# Altium integrated library Xilinx Virtex.IntLib: 240 symbols (part 36 of 36)
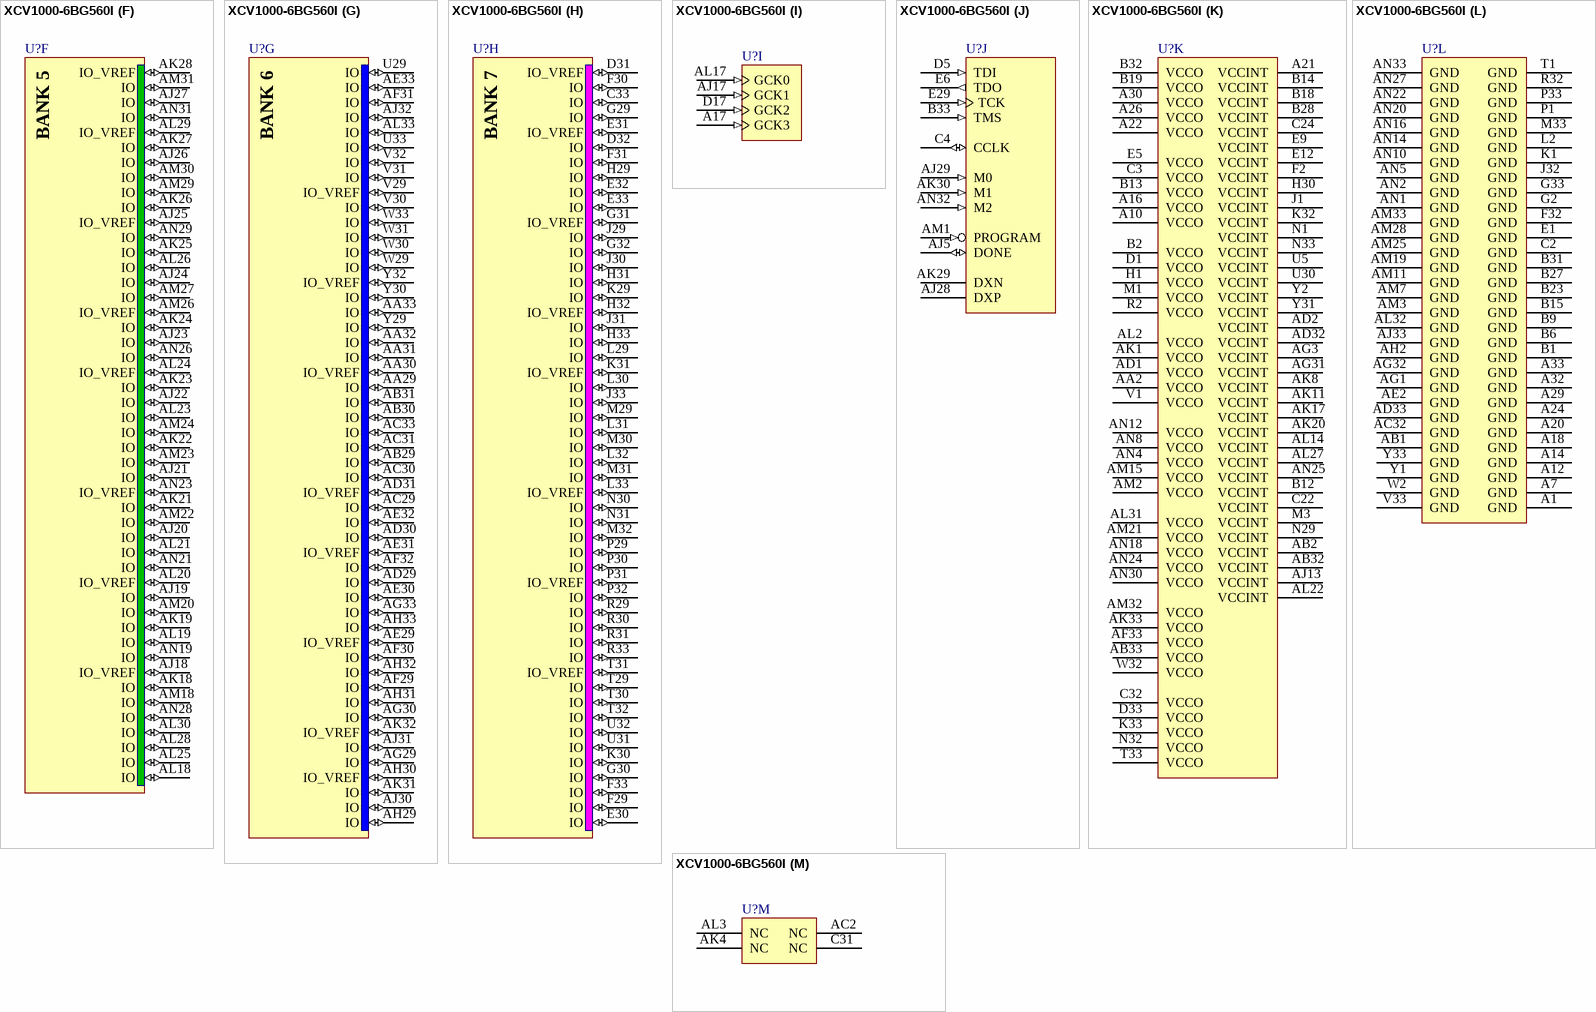
[diagram p256: symbol XCV1000-6BG560I]

## XCV1000-6BG560I
designator U?
Virtex 2.5V FPGA, 404 User I/Os, 560-Ball BGA, Speed Grade 6, Industrial Grade; Note: Solder pads are defined by the copper i.e. non-soldermask defined (NSMD); Published: 19-Sep-2001; LatestRevisionDate: 13-Apr-2006; LatestRevisionNote: IPC-7351 Footprint Added.; DatasheetVersion: Dec-2002; PackageVersion: ver1.1, Apr-2001; PackageReference: BG560; Publisher: Altium Limited; PackageDescription: 560-Ball Metal Ball Grid Array (BG560); Code_JEDEC: MO-192-BAV-1 (Depopulated); ComponentLink1Description: Virtex Datasheet; ComponentLink1URL: http://www.xilinx.com/support/documentation/data_sheets/ds003.pdf; ComponentLink2Description: BG560 Package Drawing; ComponentLink2URL: http://www.xilinx.com/support/documentation/package_specs/bg560.pdf; ComponentLink3Description: Virtex Documents; ComponentLink3URL: http://www.xilinx.com/support/documentation/virtex.htm; ComponentLink4Description: Xilinx.com Home; ComponentLink4URL: http://www.xilinx.com
footprint BG560 (BGA, 560-Leads, Body 42.5x42.5mm, Pitch 1.27mm)
signal-integrity model XCV1000_BG560 (Virtex)
part A pins: A19 IO_VREF (io), A23 IO (io), A25 IO (io), A27 IO (io), A28 IO (io), A31 IO (io), B20 IO (io), B21 IO (io), B22 IO (io), B24 IO (io), B25 IO (io), B26 IO (io), B29 IO (io), B30 IO (io), C18 IO (io), C19 IO (io), C20 IO (io), C21 IO (io), C23 IO (io), C25 IO (io), C26 IO (io), C27 IO (io), C28 IO (io), C29 IO (io), C30 IO (io), D18 IO (io), D19 IO (io), D20 IO_VREF (io), D21 IO (io), D22 IO (io), D23 IO (io), D24 IO (io), D25 IO (io), D26 IO_VREF (io), D27 IO (io), D28 IO (io), D29 IO_VREF (io), D30 IO (io), E18 IO (io), E19 IO (io), E20 IO (io), E21 IO_VREF (io), E22 IO (io), E23 IO_VREF (io), E24 IO_VREF (io), E25 IO (io), E26 IO (io), E27 IO_VREF (io), E28 IO (io)
part B pins: A2 IO_CS (io), A3 IO (io), A4 IO (io), A5 IO (io), A6 IO_VREF (io), A8 IO (io), A9 IO (io), A11 IO (io), A13 IO (io), A15 IO (io), B4 IO (io), B5 IO (io), B7 IO (io), B8 IO (io), B10 IO (io), B11 IO (io), B16 IO (io), B17 IO (io), C5 IO (io), C6 IO (io), C7 IO (io), C8 IO (io), C9 IO (io), C10 IO (io), C11 IO (io), C12 IO (io), C13 IO (io), C14 IO (io), C15 IO (io), C16 IO (io), C17 IO (io), D6 IO_WRITE (io), D7 IO_VREF (io), D8 IO (io), D9 IO (io), D10 IO_VREF (io), D11 IO_VREF (io), D12 IO (io), D13 IO_VREF (io), D14 IO (io), D15 IO (io), D16 IO_VREF (io), E7 IO_VREF (io), E8 IO (io), E10 IO (io), E11 IO (io), E13 IO (io), E14 IO (io), E15 IO_VREF (io), E16 IO (io), E17 IO (io)
part C pins: B3 IO_VREF (io), C1 IO (io), D2 IO (io), D3 IO (io), D4 IO_DOUT_BUSY (io), E2 IO (io), E3 IO (io), E4 IO_DIN_D0 (io), F1 IO (io), F3 IO (io), F4 IO (io), F5 IO (io), G1 IO (io), G3 IO (io), G4 IO (io), G5 IO_VREF (io), H2 IO (io), H3 IO (io), H4 IO_VREF (io), H5 IO (io), J2 IO (io), J3 IO (io), J4 IO (io), J5 IO (io), K2 IO (io), K3 IO_D1 (io), K4 IO (io), K5 IO_VREF (io), L1 IO (io), L3 IO (io), L4 IO_D2 (io), L5 IO_VREF (io), M2 IO (io), M4 IO (io), M5 IO (io), N2 IO (io), N3 IO (io), N4 IO (io), N5 IO_VREF (io), P2 IO (io), P3 IO_D3 (io), P4 IO_VREF (io), P5 IO (io), R1 IO_VREF (io), R3 IO (io), R4 IO (io), R5 IO (io), T2 IO (io), T3 IO (io), T4 IO (io), T5 IO (io), U3 IO (io)
part D pins: AA1 IO (io), AA3 IO (io), AA4 IO_VREF (io), AA5 IO (io), AB3 IO (io), AB4 IO (io), AB5 IO_D5 (io), AC1 IO (io), AC3 IO (io), AC4 IO_D6 (io), AC5 IO (io), AD3 IO_VREF (io), AD4 IO (io), AD5 IO (io), AE1 IO (io), AE3 IO (io), AE4 IO (io), AE5 IO_VREF (io), AF1 IO_VREF (io), AF2 IO (io), AF3 IO (io), AF4 IO (io), AF5 IO (io), AG2 IO (io), AG4 IO (io), AG5 IO (io), AH1 IO (io), AH3 IO (io), AH4 IO_VREF (io), AH5 IO_INIT (io), AJ1 IO (io), AJ2 IO (io), AJ3 IO (io), AJ4 IO_D7 (io), AK2 IO_VREF (io), AK3 IO (io), AL1 IO (io), U1 IO (io), U2 IO (io), U4 IO (io), V2 IO (io), V3 IO (io), V4 IO_VREF (io), V5 IO (io), W1 IO (io), W3 IO (io), W4 IO_D4 (io), W5 IO_VREF (io), Y3 IO (io), Y4 IO (io), Y5 IO (io)
part E pins: AJ6 IO (io), AJ7 IO (io), AJ8 IO (io), AJ9 IO (io), AJ10 IO (io), AJ11 IO (io), AJ12 IO (io), AJ14 IO (io), AJ15 IO (io), AJ16 IO (io), AK5 IO (io), AK6 IO (io), AK7 IO (io), AK9 IO (io), AK10 IO (io), AK12 IO (io), AK13 IO_VREF (io), AK14 IO (io), AK15 IO (io), AK16 IO (io), AL4 IO (io), AL5 IO (io), AL6 IO (io), AL7 IO_VREF (io), AL8 IO (io), AL9 IO_VREF (io), AL10 IO_VREF (io), AL11 IO (io), AL12 IO (io), AL13 IO (io), AL15 IO (io), AL16 IO_VREF (io), AM4 IO_VREF (io), AM5 IO (io), AM6 IO (io), AM8 IO (io), AM9 IO (io), AM10 IO (io), AM12 IO (io), AM13 IO (io), AM14 IO_VREF (io), AM16 IO (io), AM17 IO (io), AN3 IO_VREF (io), AN6 IO (io), AN7 IO (io), AN9 IO (io), AN11 IO (io), AN13 IO (io), AN15 IO (io), AN17 IO (io)
part F pins: AJ18 IO_VREF (io), AJ19 IO (io), AJ20 IO (io), AJ21 IO (io), AJ22 IO (io), AJ23 IO (io), AJ24 IO (io), AJ25 IO_VREF (io), AJ26 IO (io), AJ27 IO (io), AK18 IO (io), AK19 IO (io), AK21 IO (io), AK22 IO (io), AK23 IO (io), AK24 IO (io), AK25 IO (io), AK26 IO (io), AK27 IO (io), AK28 IO_VREF (io), AL18 IO (io), AL19 IO (io), AL20 IO_VREF (io), AL21 IO (io), AL23 IO (io), AL24 IO_VREF (io), AL25 IO (io), AL26 IO (io), AL28 IO (io), AL29 IO_VREF (io), AL30 IO (io), AM18 IO (io), AM20 IO (io), AM22 IO (io), AM23 IO (io), AM24 IO (io), AM26 IO_VREF (io), AM27 IO (io), AM29 IO (io), AM30 IO (io), AM31 IO (io), AN19 IO (io), AN21 IO (io), AN23 IO_VREF (io), AN26 IO (io), AN28 IO (io), AN29 IO (io), AN31 IO (io)
part G pins: AA29 IO (io), AA30 IO_VREF (io), AA31 IO (io), AA32 IO (io), AA33 IO (io), AB29 IO (io), AB30 IO (io), AB31 IO (io), AC29 IO (io), AC30 IO (io), AC31 IO (io), AC33 IO (io), AD29 IO (io), AD30 IO (io), AD31 IO_VREF (io), AE29 IO_VREF (io), AE30 IO (io), AE31 IO_VREF (io), AE32 IO (io), AE33 IO (io), AF29 IO (io), AF30 IO (io), AF31 IO (io), AF32 IO (io), AG29 IO (io), AG30 IO (io), AG33 IO (io), AH29 IO (io), AH30 IO_VREF (io), AH31 IO (io), AH32 IO (io), AH33 IO (io), AJ30 IO (io), AJ31 IO (io), AJ32 IO (io), AK31 IO (io), AK32 IO_VREF (io), AL33 IO (io), U29 IO (io), U33 IO (io), V29 IO_VREF (io), V30 IO (io), V31 IO (io), V32 IO (io), W29 IO (io), W30 IO (io), W31 IO (io), W33 IO (io), Y29 IO (io), Y30 IO (io), Y32 IO_VREF (io)
part H pins: C33 IO (io), D31 IO_VREF (io), D32 IO (io), E30 IO (io), E31 IO_VREF (io), E32 IO (io), E33 IO (io), F29 IO (io), F30 IO (io), F31 IO (io), F33 IO (io), G29 IO (io), G30 IO (io), G31 IO_VREF (io), G32 IO (io), H29 IO (io), H31 IO (io), H32 IO_VREF (io), H33 IO (io), J29 IO (io), J30 IO (io), J31 IO (io), J33 IO (io), K29 IO (io), K30 IO (io), K31 IO_VREF (io), L29 IO (io), L30 IO (io), L31 IO (io), L32 IO (io), L33 IO_VREF (io), M29 IO (io), M30 IO (io), M31 IO (io), M32 IO (io), N30 IO (io), N31 IO (io), P29 IO (io), P30 IO (io), P31 IO_VREF (io), P32 IO (io), R29 IO (io), R30 IO (io), R31 IO (io), R33 IO (io), T29 IO (io), T30 IO (io), T31 IO_VREF (io), T32 IO (io), U31 IO (io), U32 IO (io)
part I pins: A17 GCK3 (in), AJ17 GCK1 (in), AL17 GCK0 (in), D17 GCK2 (in)
part J pins: AJ5 DONE (io), AJ28 DXP, AJ29 M0 (in), AK29 DXN, AK30 M1 (in), AM1 PROGRAM (in), AN32 M2 (in), B33 TMS (in), C4 CCLK (io), D5 TDI (in), E6 TDO (out), E29 TCK (in)
part K pins: A10 VCCO (power), A16 VCCO (power), A21 VCCINT (power), A22 VCCO (power), A26 VCCO (power), A30 VCCO (power), AA2 VCCO (power), AB2 VCCINT (power), AB32 VCCINT (power), AB33 VCCO (power), AD1 VCCO (power), AD2 VCCINT (power), AD32 VCCINT (power), AF33 VCCO (power), AG3 VCCINT (power), AG31 VCCINT (power), AJ13 VCCINT (power), AK1 VCCO (power), AK8 VCCINT (power), AK11 VCCINT (power), AK17 VCCINT (power), AK20 VCCINT (power), AK33 VCCO (power), AL2 VCCO (power), AL14 VCCINT (power), AL22 VCCINT (power), AL27 VCCINT (power), AL31 VCCO (power), AM2 VCCO (power), AM15 VCCO (power), AM21 VCCO (power), AM32 VCCO (power), AN4 VCCO (power), AN8 VCCO (power), AN12 VCCO (power), AN18 VCCO (power), AN24 VCCO (power), AN25 VCCINT (power), AN30 VCCO (power), B2 VCCO (power), B12 VCCINT (power), B13 VCCO (power), B14 VCCINT (power), B18 VCCINT (power), B19 VCCO (power), B28 VCCINT (power), B32 VCCO (power), C3 VCCO (power), C22 VCCINT (power), C24 VCCINT (power), C32 VCCO (power), D1 VCCO (power), D33 VCCO (power), E5 VCCO (power), E9 VCCINT (power), E12 VCCINT (power), F2 VCCINT (power), H1 VCCO (power), H30 VCCINT (power), J1 VCCINT (power), K32 VCCINT (power), K33 VCCO (power), M1 VCCO (power), M3 VCCINT (power), N1 VCCINT (power), N29 VCCINT (power), N32 VCCO (power), N33 VCCINT (power), R2 VCCO (power), T33 VCCO (power), U5 VCCINT (power), U30 VCCINT (power), V1 VCCO (power), W32 VCCO (power), Y2 VCCINT (power), Y31 VCCINT (power)
part L pins: A1 GND (power), A7 GND (power), A12 GND (power), A14 GND (power), A18 GND (power), A20 GND (power), A24 GND (power), A29 GND (power), A32 GND (power), A33 GND (power), AB1 GND (power), AC32 GND (power), AD33 GND (power), AE2 GND (power), AG1 GND (power), AG32 GND (power), AH2 GND (power), AJ33 GND (power), AL32 GND (power), AM3 GND (power), AM7 GND (power), AM11 GND (power), AM19 GND (power), AM25 GND (power), AM28 GND (power), AM33 GND (power), AN1 GND (power), AN2 GND (power), AN5 GND (power), AN10 GND (power), AN14 GND (power), AN16 GND (power), AN20 GND (power), AN22 GND (power), AN27 GND (power), AN33 GND (power), B1 GND (power), B6 GND (power), B9 GND (power), B15 GND (power), B23 GND (power), B27 GND (power), B31 GND (power), C2 GND (power), E1 GND (power), F32 GND (power), G2 GND (power), G33 GND (power), J32 GND (power), K1 GND (power), L2 GND (power), M33 GND (power), P1 GND (power), P33 GND (power), R32 GND (power), T1 GND (power), V33 GND (power), W2 GND (power), Y1 GND (power), Y33 GND (power)
part M pins: AC2 NC, AK4 NC, AL3 NC, C31 NC
part A text: BANK 0
part B text: BANK 1
part C text: BANK 2
part D text: BANK 3
part E text: BANK 4
part F text: BANK 5
part G text: BANK 6
part H text: BANK 7

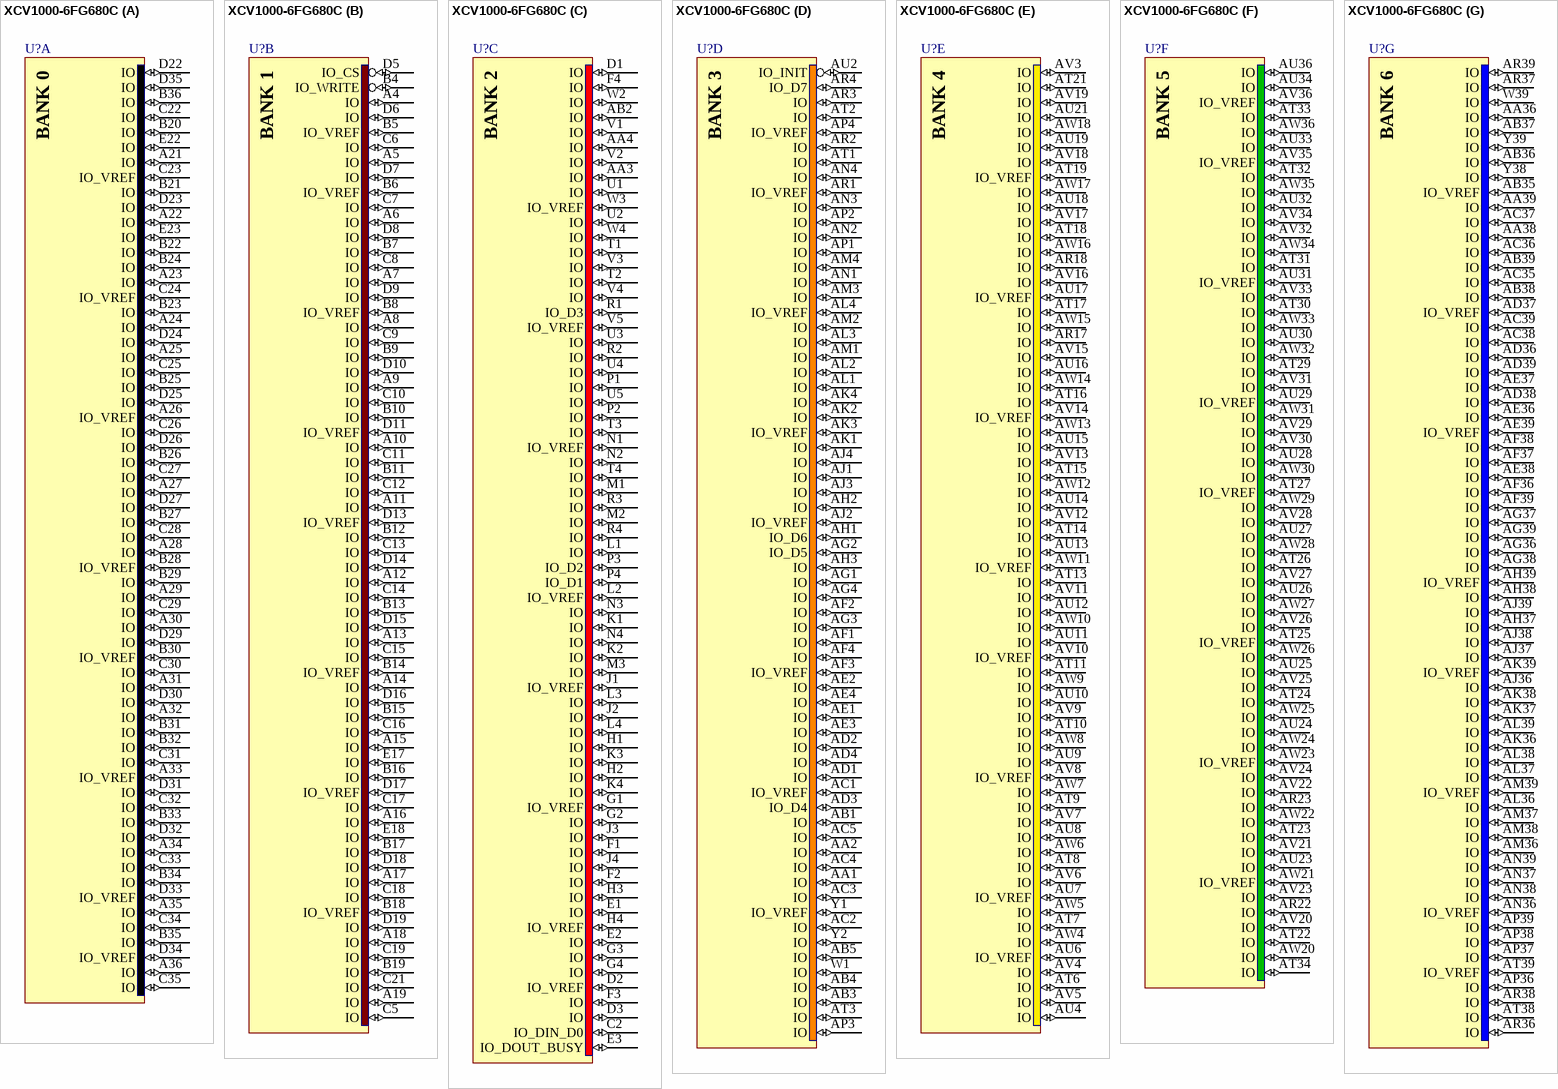
[diagram p218: symbol XCV1000-6FG680C]

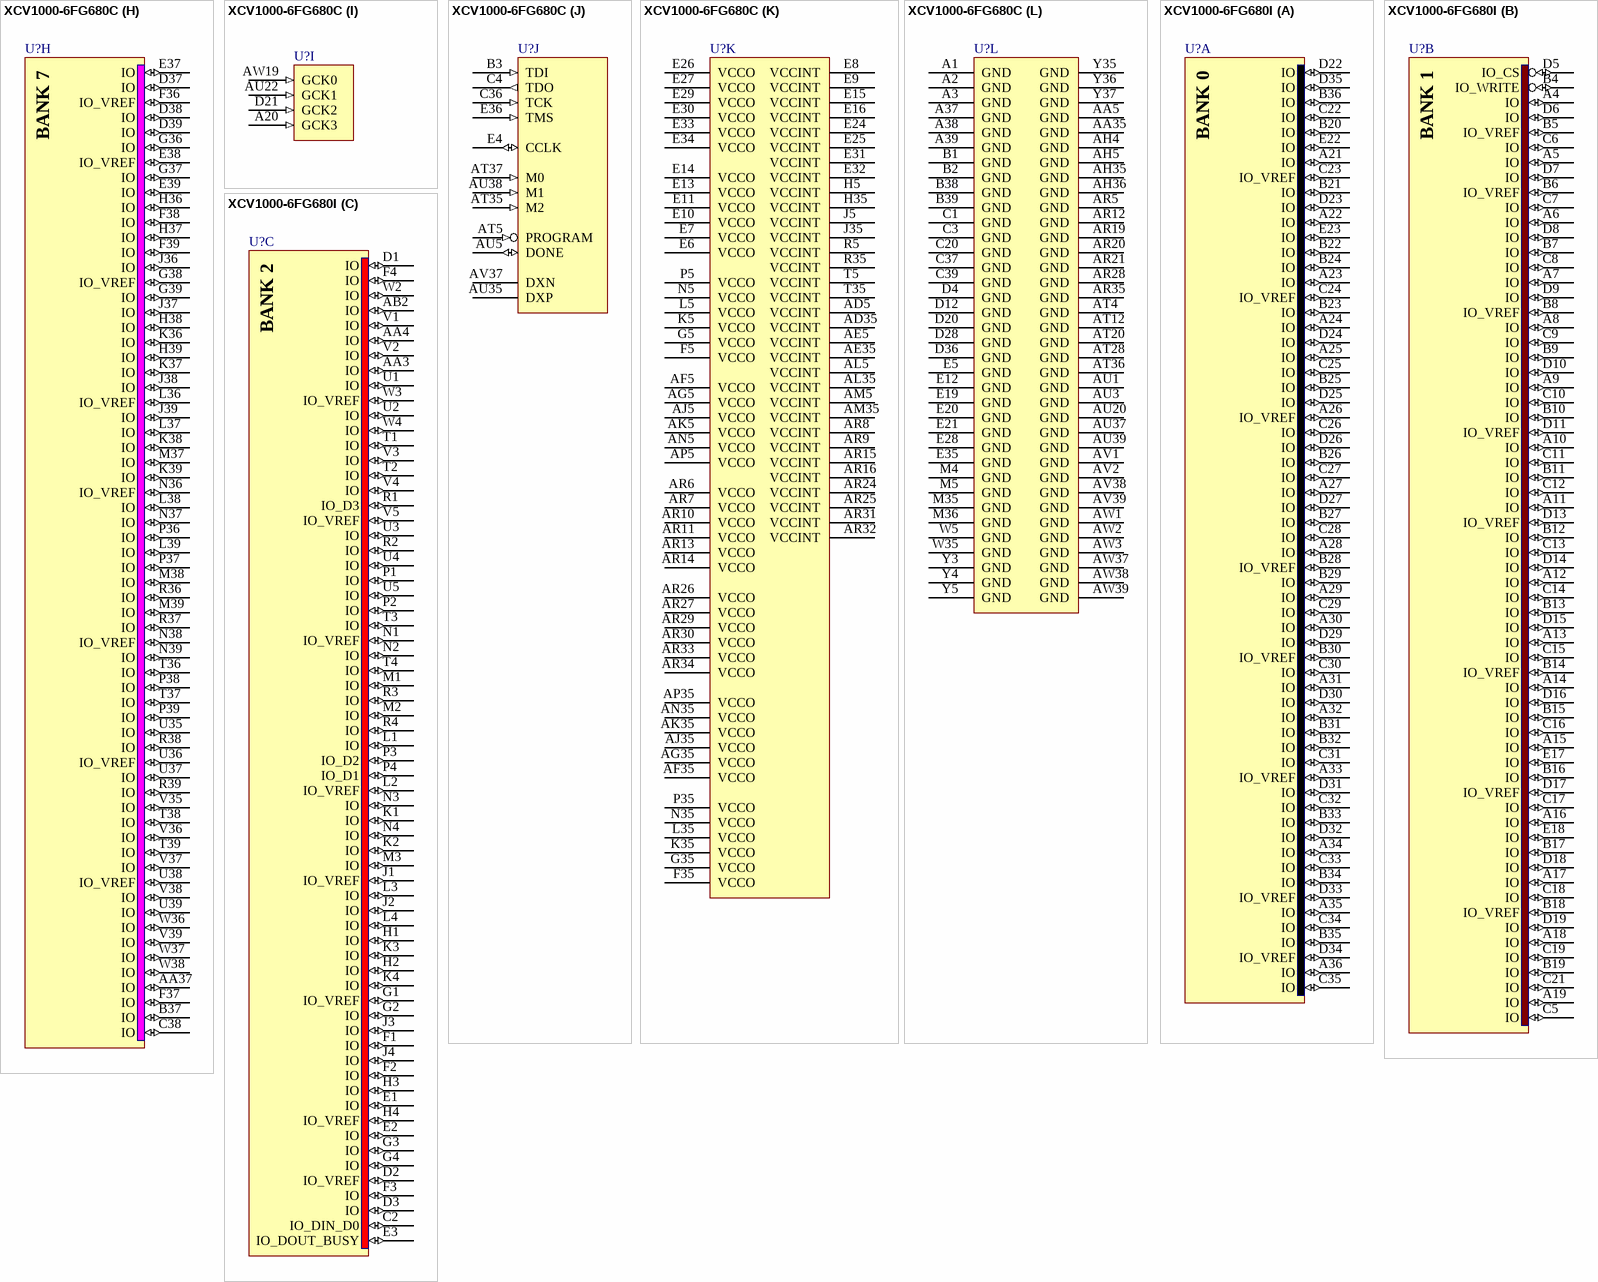
[diagram p219: symbols XCV1000-6FG680C to XCV1000-6FG680I]

## XCV1000-6FG680C
designator U?
Virtex 2.5V FPGA, 512 User I/Os, 680-Ball FBGA, Speed Grade 6, Commercial Grade; Note: Solder pads are defined by the copper i.e. non-soldermask defined (NSMD); Published: 19-Sep-2001; LatestRevisionDate: 13-Apr-2006; LatestRevisionNote: IPC-7351 Footprint Added.; DatasheetVersion: Dec-2002; PackageVersion: ver1.2.1, Apr-2005; PackageReference: FG680; Publisher: Altium Limited; PackageDescription: 680-Ball Fine Pitch Ball Grid Array (FG680); Supplier 1: Digi-Key; Supplier Part Number 1: XCV1000-6FG680C-ND; Code_JEDEC: MO-192-AAU-1 (Depopulated); ComponentLink1Description: Virtex Datasheet; ComponentLink1URL: http://www.xilinx.com/support/documentation/data_sheets/ds003.pdf; ComponentLink2Description: FG680 Package Drawing; ComponentLink2URL: http://www.xilinx.com/support/documentation/package_specs/fg680.pdf; ComponentLink3Description: Virtex Documents; ComponentLink3URL: http://www.xilinx.com/support/documentation/virtex.htm; ComponentLink4Description: Xilinx.com Home; ComponentLink4URL: http://www.xilinx.com
footprint FG680 (BGA, 680-Leads, Body 40x40mm, Pitch 1mm)
signal-integrity model XCV1000_FG680 (Virtex)
part A pins: A21 IO (io), A22 IO (io), A23 IO (io), A24 IO (io), A25 IO (io), A26 IO_VREF (io), A27 IO (io), A28 IO (io), A29 IO (io), A30 IO (io), A31 IO (io), A32 IO (io), A33 IO_VREF (io), A34 IO (io), A35 IO (io), A36 IO (io), B20 IO (io), B21 IO (io), B22 IO (io), B23 IO (io), B24 IO (io), B25 IO (io), B26 IO (io), B27 IO (io), B28 IO_VREF (io), B29 IO (io), B30 IO_VREF (io), B31 IO (io), B32 IO (io), B33 IO (io), B34 IO (io), B35 IO (io), B36 IO (io), C22 IO (io), C23 IO_VREF (io), C24 IO_VREF (io), C25 IO (io), C26 IO (io), C27 IO (io), C28 IO (io), C29 IO (io), C30 IO (io), C31 IO (io), C32 IO (io), C33 IO (io), C34 IO (io), C35 IO (io), D22 IO (io), D23 IO (io), D24 IO (io), D25 IO (io), D26 IO (io), D27 IO (io), D29 IO (io), D30 IO (io), D31 IO (io), D32 IO (io), D33 IO_VREF (io), D34 IO_VREF (io), D35 IO (io), E22 IO (io), E23 IO (io)
part B pins: A4 IO (io), A5 IO (io), A6 IO (io), A7 IO (io), A8 IO (io), A9 IO (io), A10 IO (io), A11 IO (io), A12 IO (io), A13 IO (io), A14 IO (io), A15 IO (io), A16 IO (io), A17 IO (io), A18 IO (io), A19 IO (io), B4 IO_WRITE (io), B5 IO_VREF (io), B6 IO_VREF (io), B7 IO (io), B8 IO_VREF (io), B9 IO (io), B10 IO (io), B11 IO (io), B12 IO (io), B13 IO (io), B14 IO_VREF (io), B15 IO (io), B16 IO (io), B17 IO (io), B18 IO_VREF (io), B19 IO (io), C5 IO (io), C6 IO (io), C7 IO (io), C8 IO (io), C9 IO (io), C10 IO (io), C11 IO (io), C12 IO (io), C13 IO (io), C14 IO (io), C15 IO (io), C16 IO (io), C17 IO (io), C18 IO (io), C19 IO (io), C21 IO (io), D5 IO_CS (io), D6 IO (io), D7 IO (io), D8 IO (io), D9 IO (io), D10 IO (io), D11 IO_VREF (io), D13 IO_VREF (io), D14 IO (io), D15 IO (io), D16 IO (io), D17 IO_VREF (io), D18 IO (io), D19 IO (io), E17 IO (io), E18 IO (io)
part C pins: AA3 IO (io), AA4 IO (io), AB2 IO (io), C2 IO_DIN_D0 (io), D1 IO (io), D2 IO_VREF (io), D3 IO (io), E1 IO (io), E2 IO (io), E3 IO_DOUT_BUSY (io), F1 IO (io), F2 IO (io), F3 IO (io), F4 IO (io), G1 IO_VREF (io), G2 IO (io), G3 IO (io), G4 IO (io), H1 IO (io), H2 IO (io), H3 IO (io), H4 IO_VREF (io), J1 IO_VREF (io), J2 IO (io), J3 IO (io), J4 IO (io), K1 IO (io), K2 IO (io), K3 IO (io), K4 IO (io), L1 IO (io), L2 IO_VREF (io), L3 IO (io), L4 IO (io), M1 IO (io), M2 IO (io), M3 IO (io), N1 IO_VREF (io), N2 IO (io), N3 IO (io), N4 IO (io), P1 IO (io), P2 IO (io), P3 IO_D2 (io), P4 IO_D1 (io), R1 IO_D3 (io), R2 IO (io), R3 IO (io), R4 IO (io), T1 IO (io), T2 IO (io), T3 IO (io), T4 IO (io), U1 IO (io), U2 IO (io), U3 IO (io), U4 IO (io), U5 IO (io), V1 IO (io), V2 IO (io), V3 IO (io), V4 IO (io), V5 IO_VREF (io), W2 IO (io), W3 IO_VREF (io), W4 IO (io)
part D pins: AA1 IO (io), AA2 IO (io), AB1 IO (io), AB3 IO (io), AB4 IO (io), AB5 IO (io), AC1 IO_VREF (io), AC2 IO (io), AC3 IO (io), AC4 IO (io), AC5 IO (io), AD1 IO (io), AD2 IO (io), AD3 IO_D4 (io), AD4 IO (io), AE1 IO (io), AE2 IO (io), AE3 IO (io), AE4 IO (io), AF1 IO (io), AF2 IO (io), AF3 IO_VREF (io), AF4 IO (io), AG1 IO (io), AG2 IO_D5 (io), AG3 IO (io), AG4 IO (io), AH1 IO_D6 (io), AH2 IO (io), AH3 IO (io), AJ1 IO (io), AJ2 IO_VREF (io), AJ3 IO (io), AJ4 IO (io), AK1 IO (io), AK2 IO (io), AK3 IO_VREF (io), AK4 IO (io), AL1 IO (io), AL2 IO (io), AL3 IO (io), AL4 IO_VREF (io), AM1 IO (io), AM2 IO (io), AM3 IO (io), AM4 IO (io), AN1 IO (io), AN2 IO (io), AN3 IO (io), AN4 IO (io), AP1 IO (io), AP2 IO (io), AP3 IO (io), AP4 IO_VREF (io), AR1 IO_VREF (io), AR2 IO (io), AR3 IO (io), AR4 IO_D7 (io), AT1 IO (io), AT2 IO (io), AT3 IO (io), AU2 IO_INIT (io), W1 IO (io), Y1 IO_VREF (io), Y2 IO (io)
part E pins: AR17 IO (io), AR18 IO (io), AT6 IO (io), AT7 IO (io), AT8 IO (io), AT9 IO (io), AT10 IO (io), AT11 IO (io), AT13 IO (io), AT14 IO (io), AT15 IO (io), AT16 IO (io), AT17 IO (io), AT18 IO (io), AT19 IO_VREF (io), AT21 IO (io), AU4 IO (io), AU6 IO_VREF (io), AU7 IO_VREF (io), AU8 IO (io), AU9 IO (io), AU10 IO (io), AU11 IO (io), AU12 IO (io), AU13 IO (io), AU14 IO (io), AU15 IO (io), AU16 IO (io), AU17 IO_VREF (io), AU18 IO (io), AU19 IO (io), AU21 IO (io), AV3 IO (io), AV4 IO (io), AV5 IO (io), AV6 IO (io), AV7 IO (io), AV8 IO_VREF (io), AV9 IO (io), AV10 IO_VREF (io), AV11 IO (io), AV12 IO (io), AV13 IO (io), AV14 IO_VREF (io), AV15 IO (io), AV16 IO (io), AV17 IO (io), AV18 IO (io), AV19 IO (io), AW4 IO (io), AW5 IO (io), AW6 IO (io), AW7 IO (io), AW8 IO (io), AW9 IO (io), AW10 IO (io), AW11 IO_VREF (io), AW12 IO (io), AW13 IO (io), AW14 IO (io), AW15 IO (io), AW16 IO (io), AW17 IO (io), AW18 IO (io)
part F pins: AR22 IO (io), AR23 IO (io), AT22 IO (io), AT23 IO (io), AT24 IO (io), AT25 IO_VREF (io), AT26 IO (io), AT27 IO_VREF (io), AT29 IO (io), AT30 IO (io), AT31 IO (io), AT32 IO (io), AT33 IO (io), AT34 IO (io), AU23 IO (io), AU24 IO (io), AU25 IO (io), AU26 IO (io), AU27 IO (io), AU28 IO (io), AU29 IO_VREF (io), AU30 IO (io), AU31 IO_VREF (io), AU32 IO (io), AU33 IO (io), AU34 IO (io), AU36 IO (io), AV20 IO (io), AV21 IO (io), AV22 IO (io), AV23 IO (io), AV24 IO (io), AV25 IO (io), AV26 IO (io), AV27 IO (io), AV28 IO (io), AV29 IO (io), AV30 IO (io), AV31 IO (io), AV32 IO (io), AV33 IO (io), AV34 IO (io), AV35 IO_VREF (io), AV36 IO_VREF (io), AW20 IO (io), AW21 IO_VREF (io), AW22 IO (io), AW23 IO_VREF (io), AW24 IO (io), AW25 IO (io), AW26 IO (io), AW27 IO (io), AW28 IO (io), AW29 IO (io), AW30 IO (io), AW31 IO (io), AW32 IO (io), AW33 IO (io), AW34 IO (io), AW35 IO (io), AW36 IO (io)
part G pins: AA36 IO (io), AA38 IO (io), AA39 IO (io), AB35 IO_VREF (io), AB36 IO (io), AB37 IO (io), AB38 IO (io), AB39 IO (io), AC35 IO (io), AC36 IO (io), AC37 IO (io), AC38 IO (io), AC39 IO (io), AD36 IO (io), AD37 IO_VREF (io), AD38 IO (io), AD39 IO (io), AE36 IO (io), AE37 IO (io), AE38 IO (io), AE39 IO_VREF (io), AF36 IO (io), AF37 IO (io), AF38 IO (io), AF39 IO (io), AG36 IO (io), AG37 IO (io), AG38 IO (io), AG39 IO (io), AH37 IO (io), AH38 IO (io), AH39 IO_VREF (io), AJ36 IO (io), AJ37 IO (io), AJ38 IO (io), AJ39 IO (io), AK36 IO (io), AK37 IO (io), AK38 IO (io), AK39 IO_VREF (io), AL36 IO (io), AL37 IO (io), AL38 IO (io), AL39 IO (io), AM36 IO (io), AM37 IO (io), AM38 IO (io), AM39 IO_VREF (io), AN36 IO_VREF (io), AN37 IO (io), AN38 IO (io), AN39 IO (io), AP36 IO (io), AP37 IO (io), AP38 IO (io), AP39 IO (io), AR36 IO (io), AR37 IO (io), AR38 IO (io), AR39 IO (io), AT38 IO (io), AT39 IO_VREF (io), W39 IO (io), Y38 IO (io), Y39 IO (io)
part H pins: AA37 IO (io), B37 IO (io), C38 IO (io), D37 IO (io), D38 IO (io), D39 IO (io), E37 IO (io), E38 IO_VREF (io), E39 IO (io), F36 IO_VREF (io), F37 IO (io), F38 IO (io), F39 IO (io), G36 IO (io), G37 IO (io), G38 IO_VREF (io), G39 IO (io), H36 IO (io), H37 IO (io), H38 IO (io), H39 IO (io), J36 IO (io), J37 IO (io), J38 IO (io), J39 IO (io), K36 IO (io), K37 IO (io), K38 IO (io), K39 IO (io), L36 IO_VREF (io), L37 IO (io), L38 IO (io), L39 IO (io), M37 IO (io), M38 IO (io), M39 IO (io), N36 IO_VREF (io), N37 IO (io), N38 IO_VREF (io), N39 IO (io), P36 IO (io), P37 IO (io), P38 IO (io), P39 IO (io), R36 IO (io), R37 IO (io), R38 IO (io), R39 IO (io), T36 IO (io), T37 IO (io), T38 IO (io), T39 IO (io), U35 IO (io), U36 IO_VREF (io), U37 IO (io), U38 IO_VREF (io), U39 IO (io), V35 IO (io), V36 IO (io), V37 IO (io), V38 IO (io), V39 IO (io), W36 IO (io), W37 IO (io), W38 IO (io)
part I pins: A20 GCK3 (in), AU22 GCK1 (in), AW19 GCK0 (in), D21 GCK2 (in)
part J pins: AT5 PROGRAM (in), AT35 M2 (in), AT37 M0 (in), AU5 DONE (io), AU35 DXP, AU38 M1 (in), AV37 DXN, B3 TDI (in), C4 TDO (out), C36 TCK (in), E4 CCLK (io), E36 TMS (in)
part K pins: AD5 VCCINT (power), AD35 VCCINT (power), AE5 VCCINT (power), AE35 VCCINT (power), AF5 VCCO (power), AF35 VCCO (power), AG5 VCCO (power), AG35 VCCO (power), AJ5 VCCO (power), AJ35 VCCO (power), AK5 VCCO (power), AK35 VCCO (power), AL5 VCCINT (power), AL35 VCCINT (power), AM5 VCCINT (power), AM35 VCCINT (power), AN5 VCCO (power), AN35 VCCO (power), AP5 VCCO (power), AP35 VCCO (power), AR6 VCCO (power), AR7 VCCO (power), AR8 VCCINT (power), AR9 VCCINT (power), AR10 VCCO (power), AR11 VCCO (power), AR13 VCCO (power), AR14 VCCO (power), AR15 VCCINT (power), AR16 VCCINT (power), AR24 VCCINT (power), AR25 VCCINT (power), AR26 VCCO (power), AR27 VCCO (power), AR29 VCCO (power), AR30 VCCO (power), AR31 VCCINT (power), AR32 VCCINT (power), AR33 VCCO (power), AR34 VCCO (power), E6 VCCO (power), E7 VCCO (power), E8 VCCINT (power), E9 VCCINT (power), E10 VCCO (power), E11 VCCO (power), E13 VCCO (power), E14 VCCO (power), E15 VCCINT (power), E16 VCCINT (power), E24 VCCINT (power), E25 VCCINT (power), E26 VCCO (power), E27 VCCO (power), E29 VCCO (power), E30 VCCO (power), E31 VCCINT (power), E32 VCCINT (power), E33 VCCO (power), E34 VCCO (power), F5 VCCO (power), F35 VCCO (power), G5 VCCO (power), G35 VCCO (power), H5 VCCINT (power), H35 VCCINT (power), J5 VCCINT (power), J35 VCCINT (power), K5 VCCO (power), K35 VCCO (power), L5 VCCO (power), L35 VCCO (power), N5 VCCO (power), N35 VCCO (power), P5 VCCO (power), P35 VCCO (power), R5 VCCINT (power), R35 VCCINT (power), T5 VCCINT (power), T35 VCCINT (power)
part L pins: A1 GND (power), A2 GND (power), A3 GND (power), A37 GND (power), A38 GND (power), A39 GND (power), AA5 GND (power), AA35 GND (power), AH4 GND (power), AH5 GND (power), AH35 GND (power), AH36 GND (power), AR5 GND (power), AR12 GND (power), AR19 GND (power), AR20 GND (power), AR21 GND (power), AR28 GND (power), AR35 GND (power), AT4 GND (power), AT12 GND (power), AT20 GND (power), AT28 GND (power), AT36 GND (power), AU1 GND (power), AU3 GND (power), AU20 GND (power), AU37 GND (power), AU39 GND (power), AV1 GND (power), AV2 GND (power), AV38 GND (power), AV39 GND (power), AW1 GND (power), AW2 GND (power), AW3 GND (power), AW37 GND (power), AW38 GND (power), AW39 GND (power), B1 GND (power), B2 GND (power), B38 GND (power), B39 GND (power), C1 GND (power), C3 GND (power), C20 GND (power), C37 GND (power), C39 GND (power), D4 GND (power), D12 GND (power), D20 GND (power), D28 GND (power), D36 GND (power), E5 GND (power), E12 GND (power), E19 GND (power), E20 GND (power), E21 GND (power), E28 GND (power), E35 GND (power), M4 GND (power), M5 GND (power), M35 GND (power), M36 GND (power), W5 GND (power), W35 GND (power), Y3 GND (power), Y4 GND (power), Y5 GND (power), Y35 GND (power), Y36 GND (power), Y37 GND (power)
part A text: BANK 0
part B text: BANK 1
part C text: BANK 2
part D text: BANK 3
part E text: BANK 4
part F text: BANK 5
part G text: BANK 6
part H text: BANK 7

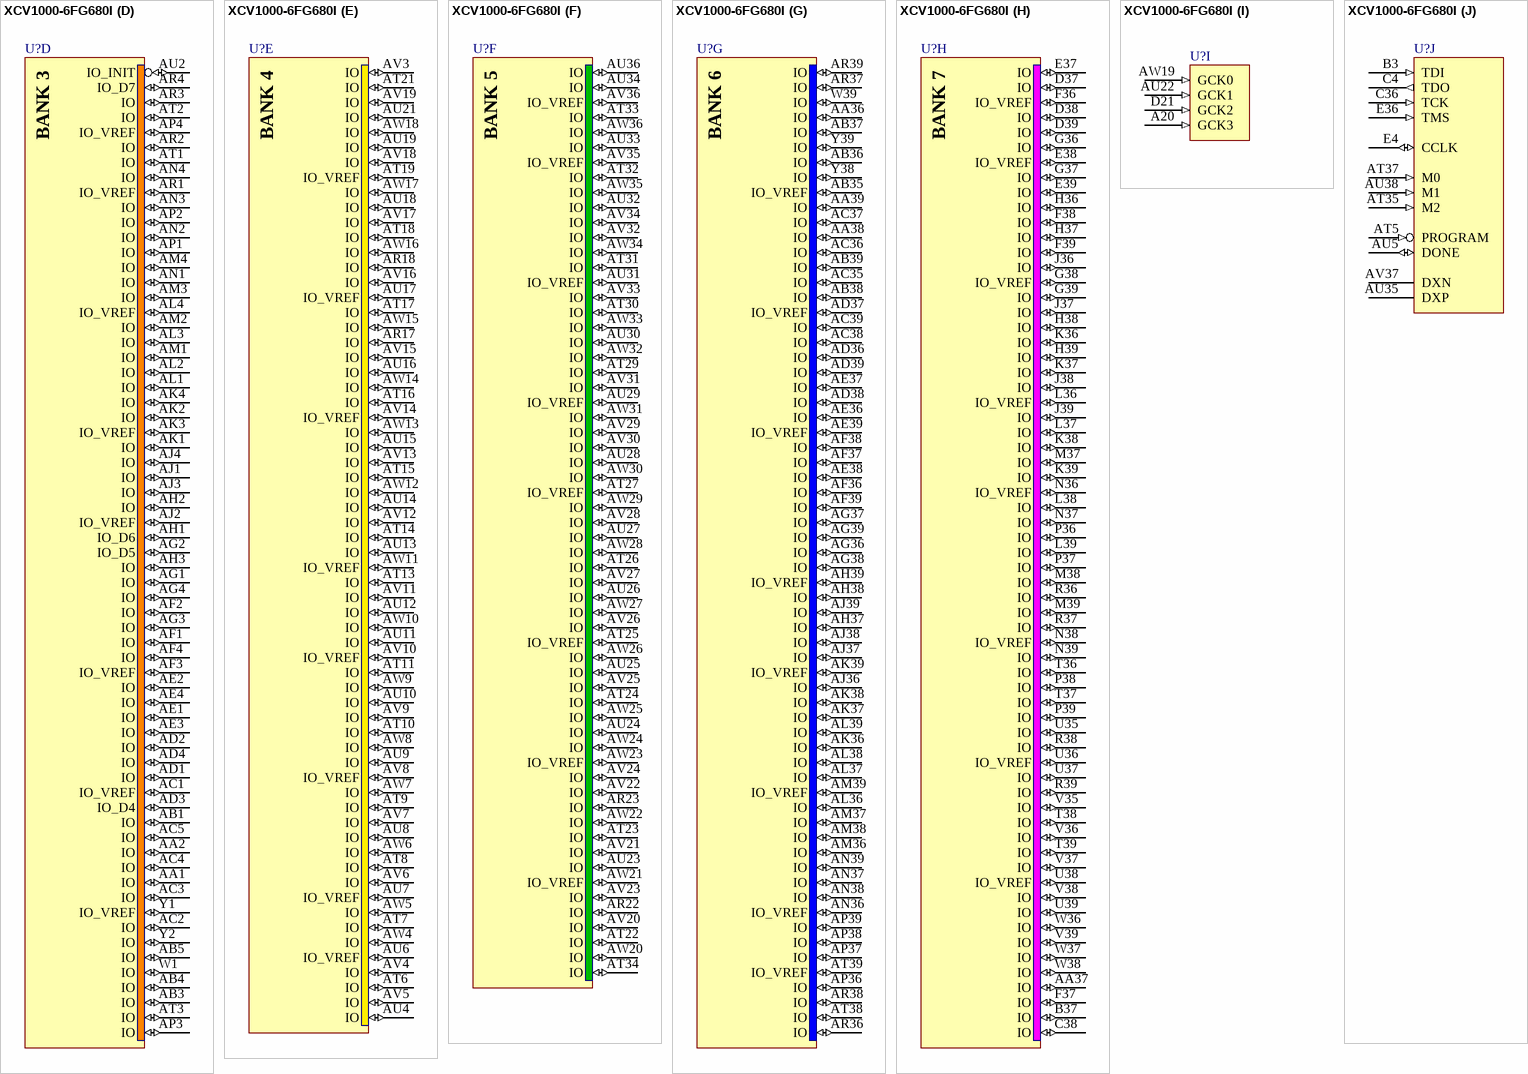
[diagram p220: symbol XCV1000-6FG680I]

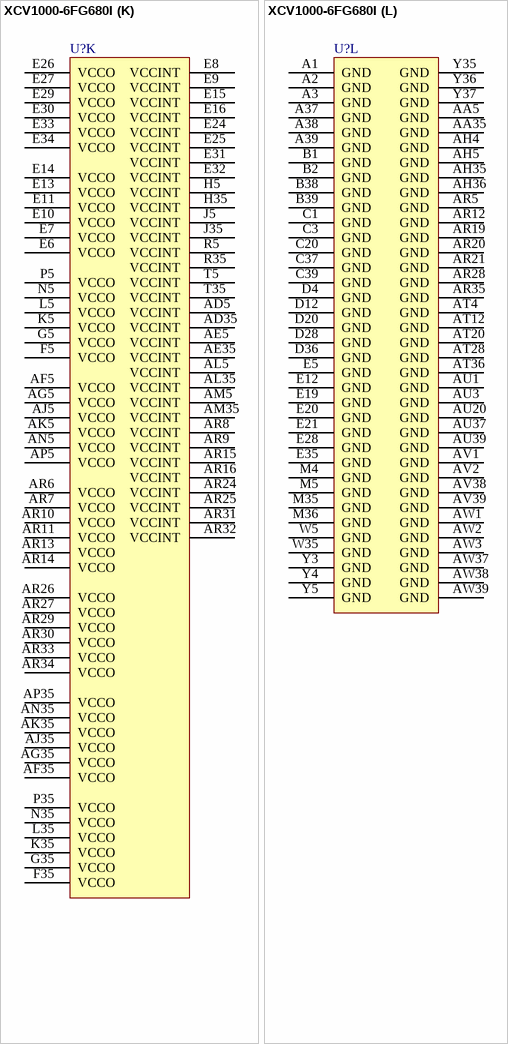
[diagram p221: symbol XCV1000-6FG680I]

## XCV1000-6FG680I
designator U?
Virtex 2.5V FPGA, 512 User I/Os, 680-Ball FBGA, Speed Grade 6, Industrial Grade; Note: Solder pads are defined by the copper i.e. non-soldermask defined (NSMD); Published: 19-Sep-2001; LatestRevisionDate: 13-Apr-2006; LatestRevisionNote: IPC-7351 Footprint Added.; DatasheetVersion: Dec-2002; PackageVersion: ver1.2.1, Apr-2005; PackageReference: FG680; Publisher: Altium Limited; PackageDescription: 680-Ball Fine Pitch Ball Grid Array (FG680); Code_JEDEC: MO-192-AAU-1 (Depopulated); ComponentLink1Description: Virtex Datasheet; ComponentLink1URL: http://www.xilinx.com/support/documentation/data_sheets/ds003.pdf; ComponentLink2Description: FG680 Package Drawing; ComponentLink2URL: http://www.xilinx.com/support/documentation/package_specs/fg680.pdf; ComponentLink3Description: Virtex Documents; ComponentLink3URL: http://www.xilinx.com/support/documentation/virtex.htm; ComponentLink4Description: Xilinx.com Home; ComponentLink4URL: http://www.xilinx.com
footprint FG680 (BGA, 680-Leads, Body 40x40mm, Pitch 1mm)
signal-integrity model XCV1000_FG680 (Virtex)
part A pins: A21 IO (io), A22 IO (io), A23 IO (io), A24 IO (io), A25 IO (io), A26 IO_VREF (io), A27 IO (io), A28 IO (io), A29 IO (io), A30 IO (io), A31 IO (io), A32 IO (io), A33 IO_VREF (io), A34 IO (io), A35 IO (io), A36 IO (io), B20 IO (io), B21 IO (io), B22 IO (io), B23 IO (io), B24 IO (io), B25 IO (io), B26 IO (io), B27 IO (io), B28 IO_VREF (io), B29 IO (io), B30 IO_VREF (io), B31 IO (io), B32 IO (io), B33 IO (io), B34 IO (io), B35 IO (io), B36 IO (io), C22 IO (io), C23 IO_VREF (io), C24 IO_VREF (io), C25 IO (io), C26 IO (io), C27 IO (io), C28 IO (io), C29 IO (io), C30 IO (io), C31 IO (io), C32 IO (io), C33 IO (io), C34 IO (io), C35 IO (io), D22 IO (io), D23 IO (io), D24 IO (io), D25 IO (io), D26 IO (io), D27 IO (io), D29 IO (io), D30 IO (io), D31 IO (io), D32 IO (io), D33 IO_VREF (io), D34 IO_VREF (io), D35 IO (io), E22 IO (io), E23 IO (io)
part B pins: A4 IO (io), A5 IO (io), A6 IO (io), A7 IO (io), A8 IO (io), A9 IO (io), A10 IO (io), A11 IO (io), A12 IO (io), A13 IO (io), A14 IO (io), A15 IO (io), A16 IO (io), A17 IO (io), A18 IO (io), A19 IO (io), B4 IO_WRITE (io), B5 IO_VREF (io), B6 IO_VREF (io), B7 IO (io), B8 IO_VREF (io), B9 IO (io), B10 IO (io), B11 IO (io), B12 IO (io), B13 IO (io), B14 IO_VREF (io), B15 IO (io), B16 IO (io), B17 IO (io), B18 IO_VREF (io), B19 IO (io), C5 IO (io), C6 IO (io), C7 IO (io), C8 IO (io), C9 IO (io), C10 IO (io), C11 IO (io), C12 IO (io), C13 IO (io), C14 IO (io), C15 IO (io), C16 IO (io), C17 IO (io), C18 IO (io), C19 IO (io), C21 IO (io), D5 IO_CS (io), D6 IO (io), D7 IO (io), D8 IO (io), D9 IO (io), D10 IO (io), D11 IO_VREF (io), D13 IO_VREF (io), D14 IO (io), D15 IO (io), D16 IO (io), D17 IO_VREF (io), D18 IO (io), D19 IO (io), E17 IO (io), E18 IO (io)
part C pins: AA3 IO (io), AA4 IO (io), AB2 IO (io), C2 IO_DIN_D0 (io), D1 IO (io), D2 IO_VREF (io), D3 IO (io), E1 IO (io), E2 IO (io), E3 IO_DOUT_BUSY (io), F1 IO (io), F2 IO (io), F3 IO (io), F4 IO (io), G1 IO_VREF (io), G2 IO (io), G3 IO (io), G4 IO (io), H1 IO (io), H2 IO (io), H3 IO (io), H4 IO_VREF (io), J1 IO_VREF (io), J2 IO (io), J3 IO (io), J4 IO (io), K1 IO (io), K2 IO (io), K3 IO (io), K4 IO (io), L1 IO (io), L2 IO_VREF (io), L3 IO (io), L4 IO (io), M1 IO (io), M2 IO (io), M3 IO (io), N1 IO_VREF (io), N2 IO (io), N3 IO (io), N4 IO (io), P1 IO (io), P2 IO (io), P3 IO_D2 (io), P4 IO_D1 (io), R1 IO_D3 (io), R2 IO (io), R3 IO (io), R4 IO (io), T1 IO (io), T2 IO (io), T3 IO (io), T4 IO (io), U1 IO (io), U2 IO (io), U3 IO (io), U4 IO (io), U5 IO (io), V1 IO (io), V2 IO (io), V3 IO (io), V4 IO (io), V5 IO_VREF (io), W2 IO (io), W3 IO_VREF (io), W4 IO (io)
part D pins: AA1 IO (io), AA2 IO (io), AB1 IO (io), AB3 IO (io), AB4 IO (io), AB5 IO (io), AC1 IO_VREF (io), AC2 IO (io), AC3 IO (io), AC4 IO (io), AC5 IO (io), AD1 IO (io), AD2 IO (io), AD3 IO_D4 (io), AD4 IO (io), AE1 IO (io), AE2 IO (io), AE3 IO (io), AE4 IO (io), AF1 IO (io), AF2 IO (io), AF3 IO_VREF (io), AF4 IO (io), AG1 IO (io), AG2 IO_D5 (io), AG3 IO (io), AG4 IO (io), AH1 IO_D6 (io), AH2 IO (io), AH3 IO (io), AJ1 IO (io), AJ2 IO_VREF (io), AJ3 IO (io), AJ4 IO (io), AK1 IO (io), AK2 IO (io), AK3 IO_VREF (io), AK4 IO (io), AL1 IO (io), AL2 IO (io), AL3 IO (io), AL4 IO_VREF (io), AM1 IO (io), AM2 IO (io), AM3 IO (io), AM4 IO (io), AN1 IO (io), AN2 IO (io), AN3 IO (io), AN4 IO (io), AP1 IO (io), AP2 IO (io), AP3 IO (io), AP4 IO_VREF (io), AR1 IO_VREF (io), AR2 IO (io), AR3 IO (io), AR4 IO_D7 (io), AT1 IO (io), AT2 IO (io), AT3 IO (io), AU2 IO_INIT (io), W1 IO (io), Y1 IO_VREF (io), Y2 IO (io)
part E pins: AR17 IO (io), AR18 IO (io), AT6 IO (io), AT7 IO (io), AT8 IO (io), AT9 IO (io), AT10 IO (io), AT11 IO (io), AT13 IO (io), AT14 IO (io), AT15 IO (io), AT16 IO (io), AT17 IO (io), AT18 IO (io), AT19 IO_VREF (io), AT21 IO (io), AU4 IO (io), AU6 IO_VREF (io), AU7 IO_VREF (io), AU8 IO (io), AU9 IO (io), AU10 IO (io), AU11 IO (io), AU12 IO (io), AU13 IO (io), AU14 IO (io), AU15 IO (io), AU16 IO (io), AU17 IO_VREF (io), AU18 IO (io), AU19 IO (io), AU21 IO (io), AV3 IO (io), AV4 IO (io), AV5 IO (io), AV6 IO (io), AV7 IO (io), AV8 IO_VREF (io), AV9 IO (io), AV10 IO_VREF (io), AV11 IO (io), AV12 IO (io), AV13 IO (io), AV14 IO_VREF (io), AV15 IO (io), AV16 IO (io), AV17 IO (io), AV18 IO (io), AV19 IO (io), AW4 IO (io), AW5 IO (io), AW6 IO (io), AW7 IO (io), AW8 IO (io), AW9 IO (io), AW10 IO (io), AW11 IO_VREF (io), AW12 IO (io), AW13 IO (io), AW14 IO (io), AW15 IO (io), AW16 IO (io), AW17 IO (io), AW18 IO (io)
part F pins: AR22 IO (io), AR23 IO (io), AT22 IO (io), AT23 IO (io), AT24 IO (io), AT25 IO_VREF (io), AT26 IO (io), AT27 IO_VREF (io), AT29 IO (io), AT30 IO (io), AT31 IO (io), AT32 IO (io), AT33 IO (io), AT34 IO (io), AU23 IO (io), AU24 IO (io), AU25 IO (io), AU26 IO (io), AU27 IO (io), AU28 IO (io), AU29 IO_VREF (io), AU30 IO (io), AU31 IO_VREF (io), AU32 IO (io), AU33 IO (io), AU34 IO (io), AU36 IO (io), AV20 IO (io), AV21 IO (io), AV22 IO (io), AV23 IO (io), AV24 IO (io), AV25 IO (io), AV26 IO (io), AV27 IO (io), AV28 IO (io), AV29 IO (io), AV30 IO (io), AV31 IO (io), AV32 IO (io), AV33 IO (io), AV34 IO (io), AV35 IO_VREF (io), AV36 IO_VREF (io), AW20 IO (io), AW21 IO_VREF (io), AW22 IO (io), AW23 IO_VREF (io), AW24 IO (io), AW25 IO (io), AW26 IO (io), AW27 IO (io), AW28 IO (io), AW29 IO (io), AW30 IO (io), AW31 IO (io), AW32 IO (io), AW33 IO (io), AW34 IO (io), AW35 IO (io), AW36 IO (io)
part G pins: AA36 IO (io), AA38 IO (io), AA39 IO (io), AB35 IO_VREF (io), AB36 IO (io), AB37 IO (io), AB38 IO (io), AB39 IO (io), AC35 IO (io), AC36 IO (io), AC37 IO (io), AC38 IO (io), AC39 IO (io), AD36 IO (io), AD37 IO_VREF (io), AD38 IO (io), AD39 IO (io), AE36 IO (io), AE37 IO (io), AE38 IO (io), AE39 IO_VREF (io), AF36 IO (io), AF37 IO (io), AF38 IO (io), AF39 IO (io), AG36 IO (io), AG37 IO (io), AG38 IO (io), AG39 IO (io), AH37 IO (io), AH38 IO (io), AH39 IO_VREF (io), AJ36 IO (io), AJ37 IO (io), AJ38 IO (io), AJ39 IO (io), AK36 IO (io), AK37 IO (io), AK38 IO (io), AK39 IO_VREF (io), AL36 IO (io), AL37 IO (io), AL38 IO (io), AL39 IO (io), AM36 IO (io), AM37 IO (io), AM38 IO (io), AM39 IO_VREF (io), AN36 IO_VREF (io), AN37 IO (io), AN38 IO (io), AN39 IO (io), AP36 IO (io), AP37 IO (io), AP38 IO (io), AP39 IO (io), AR36 IO (io), AR37 IO (io), AR38 IO (io), AR39 IO (io), AT38 IO (io), AT39 IO_VREF (io), W39 IO (io), Y38 IO (io), Y39 IO (io)
part H pins: AA37 IO (io), B37 IO (io), C38 IO (io), D37 IO (io), D38 IO (io), D39 IO (io), E37 IO (io), E38 IO_VREF (io), E39 IO (io), F36 IO_VREF (io), F37 IO (io), F38 IO (io), F39 IO (io), G36 IO (io), G37 IO (io), G38 IO_VREF (io), G39 IO (io), H36 IO (io), H37 IO (io), H38 IO (io), H39 IO (io), J36 IO (io), J37 IO (io), J38 IO (io), J39 IO (io), K36 IO (io), K37 IO (io), K38 IO (io), K39 IO (io), L36 IO_VREF (io), L37 IO (io), L38 IO (io), L39 IO (io), M37 IO (io), M38 IO (io), M39 IO (io), N36 IO_VREF (io), N37 IO (io), N38 IO_VREF (io), N39 IO (io), P36 IO (io), P37 IO (io), P38 IO (io), P39 IO (io), R36 IO (io), R37 IO (io), R38 IO (io), R39 IO (io), T36 IO (io), T37 IO (io), T38 IO (io), T39 IO (io), U35 IO (io), U36 IO_VREF (io), U37 IO (io), U38 IO_VREF (io), U39 IO (io), V35 IO (io), V36 IO (io), V37 IO (io), V38 IO (io), V39 IO (io), W36 IO (io), W37 IO (io), W38 IO (io)
part I pins: A20 GCK3 (in), AU22 GCK1 (in), AW19 GCK0 (in), D21 GCK2 (in)
part J pins: AT5 PROGRAM (in), AT35 M2 (in), AT37 M0 (in), AU5 DONE (io), AU35 DXP, AU38 M1 (in), AV37 DXN, B3 TDI (in), C4 TDO (out), C36 TCK (in), E4 CCLK (io), E36 TMS (in)
part K pins: AD5 VCCINT (power), AD35 VCCINT (power), AE5 VCCINT (power), AE35 VCCINT (power), AF5 VCCO (power), AF35 VCCO (power), AG5 VCCO (power), AG35 VCCO (power), AJ5 VCCO (power), AJ35 VCCO (power), AK5 VCCO (power), AK35 VCCO (power), AL5 VCCINT (power), AL35 VCCINT (power), AM5 VCCINT (power), AM35 VCCINT (power), AN5 VCCO (power), AN35 VCCO (power), AP5 VCCO (power), AP35 VCCO (power), AR6 VCCO (power), AR7 VCCO (power), AR8 VCCINT (power), AR9 VCCINT (power), AR10 VCCO (power), AR11 VCCO (power), AR13 VCCO (power), AR14 VCCO (power), AR15 VCCINT (power), AR16 VCCINT (power), AR24 VCCINT (power), AR25 VCCINT (power), AR26 VCCO (power), AR27 VCCO (power), AR29 VCCO (power), AR30 VCCO (power), AR31 VCCINT (power), AR32 VCCINT (power), AR33 VCCO (power), AR34 VCCO (power), E6 VCCO (power), E7 VCCO (power), E8 VCCINT (power), E9 VCCINT (power), E10 VCCO (power), E11 VCCO (power), E13 VCCO (power), E14 VCCO (power), E15 VCCINT (power), E16 VCCINT (power), E24 VCCINT (power), E25 VCCINT (power), E26 VCCO (power), E27 VCCO (power), E29 VCCO (power), E30 VCCO (power), E31 VCCINT (power), E32 VCCINT (power), E33 VCCO (power), E34 VCCO (power), F5 VCCO (power), F35 VCCO (power), G5 VCCO (power), G35 VCCO (power), H5 VCCINT (power), H35 VCCINT (power), J5 VCCINT (power), J35 VCCINT (power), K5 VCCO (power), K35 VCCO (power), L5 VCCO (power), L35 VCCO (power), N5 VCCO (power), N35 VCCO (power), P5 VCCO (power), P35 VCCO (power), R5 VCCINT (power), R35 VCCINT (power), T5 VCCINT (power), T35 VCCINT (power)
part L pins: A1 GND (power), A2 GND (power), A3 GND (power), A37 GND (power), A38 GND (power), A39 GND (power), AA5 GND (power), AA35 GND (power), AH4 GND (power), AH5 GND (power), AH35 GND (power), AH36 GND (power), AR5 GND (power), AR12 GND (power), AR19 GND (power), AR20 GND (power), AR21 GND (power), AR28 GND (power), AR35 GND (power), AT4 GND (power), AT12 GND (power), AT20 GND (power), AT28 GND (power), AT36 GND (power), AU1 GND (power), AU3 GND (power), AU20 GND (power), AU37 GND (power), AU39 GND (power), AV1 GND (power), AV2 GND (power), AV38 GND (power), AV39 GND (power), AW1 GND (power), AW2 GND (power), AW3 GND (power), AW37 GND (power), AW38 GND (power), AW39 GND (power), B1 GND (power), B2 GND (power), B38 GND (power), B39 GND (power), C1 GND (power), C3 GND (power), C20 GND (power), C37 GND (power), C39 GND (power), D4 GND (power), D12 GND (power), D20 GND (power), D28 GND (power), D36 GND (power), E5 GND (power), E12 GND (power), E19 GND (power), E20 GND (power), E21 GND (power), E28 GND (power), E35 GND (power), M4 GND (power), M5 GND (power), M35 GND (power), M36 GND (power), W5 GND (power), W35 GND (power), Y3 GND (power), Y4 GND (power), Y5 GND (power), Y35 GND (power), Y36 GND (power), Y37 GND (power)
part A text: BANK 0
part B text: BANK 1
part C text: BANK 2
part D text: BANK 3
part E text: BANK 4
part F text: BANK 5
part G text: BANK 6
part H text: BANK 7